# Altium schematic symbol library HW-08-08-F-D-330-SM.SchLib: 1 symbol
Pins are listed as number, name and electrical type; pins without a type are passive.

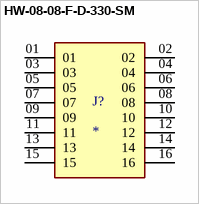
[diagram p0: symbol HW-08-08-F-D-330-SM]

## HW-08-08-F-D-330-SM
designator J?
MF: Samtec; MP: HW-08-08-F-D-330-SM; Value: *; Package: None; Price: None; Availability: Unavailable
footprint SAMTEC_HW-08-08-F-D-330-SM
pins: 01, 02, 03, 04, 05, 06, 07, 08, 09, 10, 11, 12, 13, 14, 15, 16